# Altium footprint library 2_to_1_NETTIE_TH.PcbLib: 1 footprints
Each footprint in its own frame and in the unit in brackets; x right, y up, seen from the top. Pads: shape width x height; smd on the part's side, far side on the other; paste and mask are expansions set on the pad; w line width, h text height; cw(c..) or ccw(c..) is an arc to the next point about the centre after c.
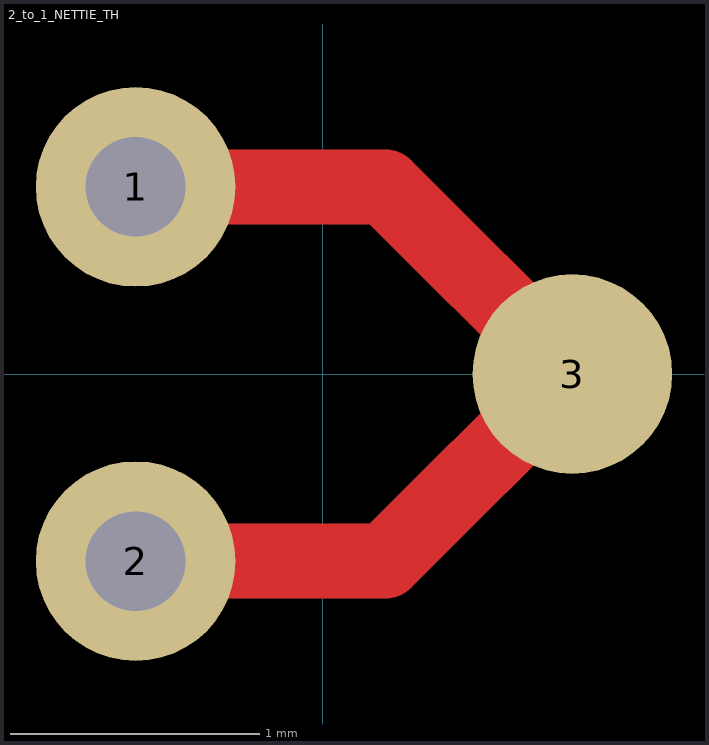
[diagram p0: the footprint, top view; thin cyan lines are the x and y axes]

## 2_to_1_NETTIE_TH [mm] "Net tie to merge 2 nets on different layers"
pads (3):
  round 0.8 hole 0.4 paste+0: 1(-0.75,0.75) 2(-0.75,-0.75)
  round 0.8 smd paste+0: 3(1,0)
Top Layer:
  lines w0.3: -0.75,-0.75 0.25,-0.75 1,0 0.25,0.75 -0.75,0.75